# EAGLE library part LIS3MDLTR (library LIS3MDL)
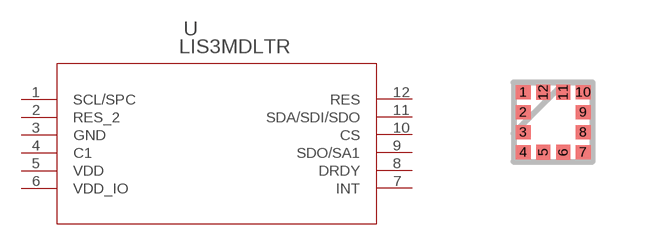
[diagram p0: symbol with the pads of LGA-12_2X2X1_STM; footprint LGA-12_2X2X1_STM]

Designator prefix U

## LIS3MDLTR (BUILT_BY: EMA_Jessica; COPYRIGHT: Copyright (C) 2018 Accelerated Designs. All rights reserved; MANUFACTURER_PART_NUMBER: LIS3MDLTR; SOURCELIBRARY: Update_to_database_2021-06-01; VENDOR: STMicroelectronics)  [LGA-12_2X2X1_STM]
1  SCL/SPC
2  RES_2  pas
3  GND  pwr
4  C1  pas
5  VDD  pwr
6  VDD_IO  pwr
7  INT  pas
8  DRDY  pas
9  SDO/SA1
10  CS
11  SDA/SDI/SDO
12  RES  pas

## Footprint LGA-12_2X2X1_STM (pad centres in mm)
smd 0.377 x 0.352: 1 -0.75,0.75; 2 -0.75,0.25; 3 -0.75,-0.25; 4 -0.75,-0.75; 7 0.75,-0.75; 8 0.75,-0.25; 9 0.75,0.25; 10 0.75,0.75
smd 0.352 x 0.377: 5 -0.25,-0.75; 6 0.25,-0.75; 11 0.25,0.75; 12 -0.25,0.75